# Altium footprint library PG-USON-8-1.PcbLib: 1 footprints
Each footprint in its own frame and in the unit in brackets; x right, y up, seen from the top. Pads: shape width x height; smd on the part's side, far side on the other; paste and mask are expansions set on the pad; w line width, h text height; cw(c..) or ccw(c..) is an arc to the next point about the centre after c.
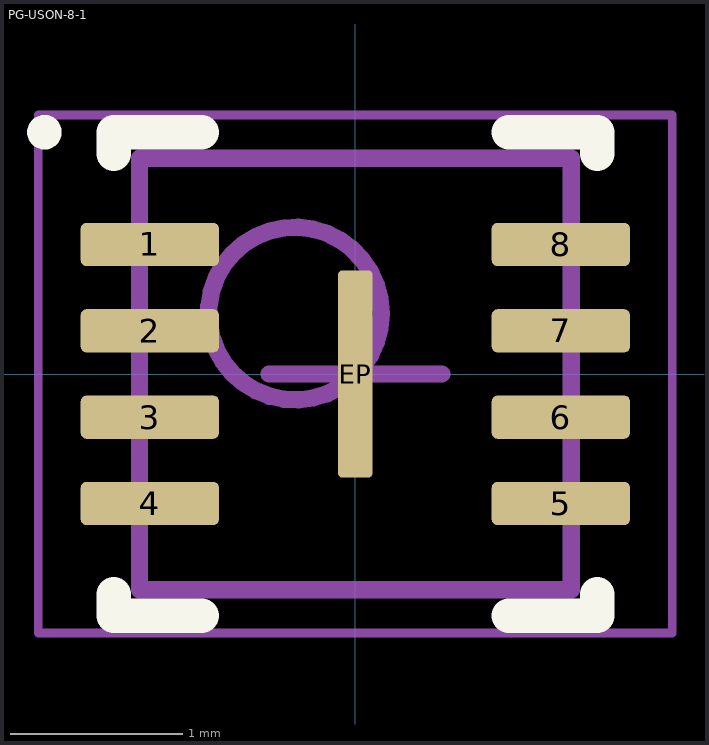
[diagram p0: the footprint, top view; thin cyan lines are the x and y axes]

## PG-USON-8-1 [mm] "SON, 8-Leads, Body 2,50x2,50mm, Pitch 0,50mm, Thermal Pad 1,20x0,20mm, IPC Medium Density"
height 0.6
pads (9):
  rrect25% 0.8x0.25 smd: 1(-1.19,0.75) 2(-1.19,0.25) 3(-1.19,-0.25) 4(-1.19,-0.75) 5(1.19,-0.75) 6(1.19,-0.25) 7(1.19,0.25) 8(1.19,0.75)
  rrect25% 0.2x1.2 smd: EP(0,0)
Top Overlay:
  circle w0.1: c-1.8,1.4 r0.05
  lines w0.2: -1.4,-1.275 -1.4,-1.4 -0.89,-1.4 ; -1.4,1.275 -1.4,1.4 -0.89,1.4 ; 0.89,-1.4 1.4,-1.4 1.4,-1.275 ; 0.89,1.4 1.4,1.4 1.4,1.275
Assembly Top:
  circle w0.1: c-0.35,0.35 r0.5
  lines w0.1: -1.25,-1.25 -1.25,1.25 1.25,1.25 1.25,-1.25 -1.25,-1.25
Courtyard Top:
  lines w0.05: -1.835,-1.5 -1.835,1.5 1.835,1.5 1.835,-1.5 -1.835,-1.5
  lines w0.1: -0.5,0 0.5,0 ; 0,-0.5 0,0.5
3D body: height 0.6, standoff 0.05, extent -1.25,-1.25 1.25,1.25